# EAGLE library part CON5POL_240GR_PC_V (library lbm)
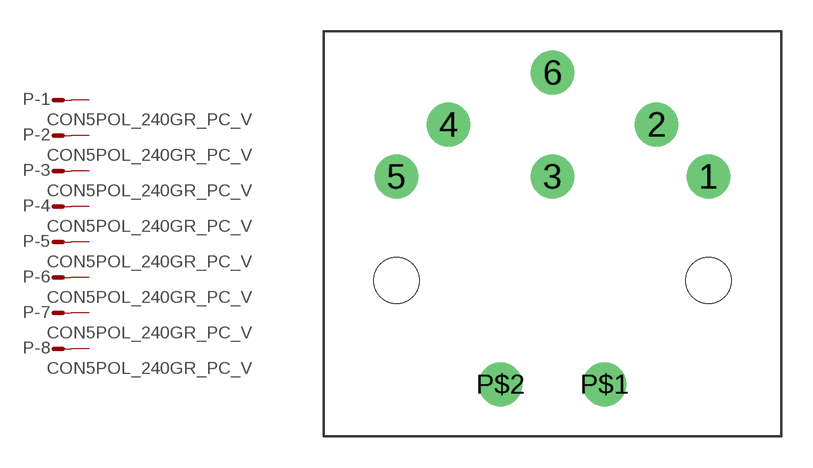
[diagram p17: symbol with the pads of CON5POL_240GR_PC_V; footprint CON5POL_240GR_PC_V]

Designator prefix P; gates -1=M -2=M -3=M -4=M -5=M -6=M -7=M -8=M

## CON5POL_240GR_PC_V  [CON5POL_240GR_PC_V]
1  -1:S  pas
2  -2:S  pas
3  -3:S  pas
4  -4:S  pas
5  -5:S  pas
6  -6:S  pas
P$1  -7:S  pas
P$2  -8:S  pas

## Footprint CON5POL_240GR_PC_V (pad centres in mm)
drill 1.4 round: 1 7.5,10; 2 5,12.5; 3 0,10; 4 -5,12.5; 5 -7.5,10; 6 0,15; P$1 2.5,0; P$2 -2.5,0
hole 2.2 at 7.5,5
hole 2.2 at -7.5,5